# Altium schematic symbol library ON Semi Power Mgt Supervisory Cct.SchLib: 52 symbols
Pins are listed as number, name and electrical type; pins without a type are passive.

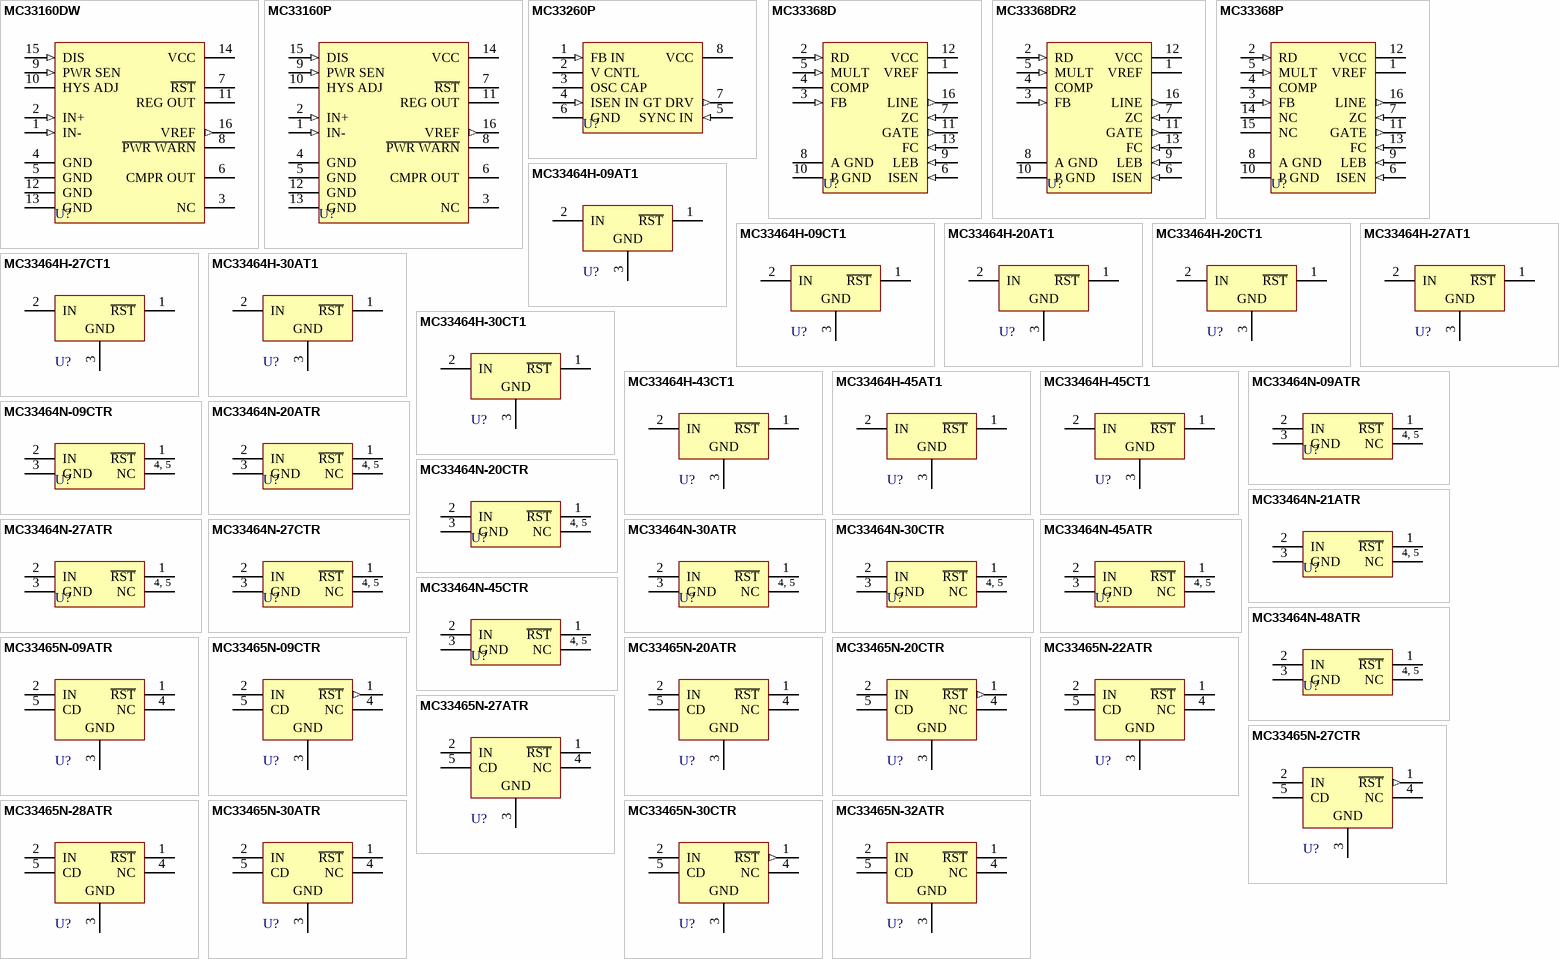
[diagram p0: symbols MC33160DW to MC33465N-32ATR]

## MC33160DW
designator U?
Microprocessor Voltage Regulator and Supervisory Circuit; Published: 15-Apr-2002; LatestRevisionDate: 13-Apr-2006; LatestRevisionNote: IPC-7351 Footprint Added.; DatasheetVersion: 1996; PackageVersion: Jul-1999; PackageReference: 751G-03; Publisher: Altium Limited; PackageDescription: 16-Pin Small Outline Integrated Circuit 1.27 mm Pitch; ComponentLink1Description: Manufacturer Link; ComponentLink1URL: http://www.onsemi.com/site/products/taxonomy/0,4438,503,00.html; ComponentLink2Description: Datasheet; ComponentLink2URL: http://www.onsemi.com/pub/Collateral/MC34160-D.PDF
footprint 751G-03_N (SOIC, 16-Leads, Body 10.3x7.5mm, Pitch 1.27mm, IPC Medium Density)
footprint 751G-03_L (SOIC, 16-Leads, Body 10.3x7.5mm, Pitch 1.27mm, IPC High Density)
footprint 751G-03_M (SOIC, 16-Leads, Body 10.3x7.5mm, Pitch 1.27mm, IPC Low Density)
pins: 1 IN- (in), 2 IN+ (in), 3 NC, 4 GND (power), 5 GND (power), 6 CMPR OUT (oc), 7 ~{RST} (oc), 8 ~{PWR WARN} (oc), 9 PWR SEN (in), 10 HYS ADJ, 11 REG OUT (power), 12 GND (power), 13 GND (power), 14 VCC (power), 15 DIS (in), 16 VREF (out)

## MC33160P
designator U?
Microprocessor Voltage Regulator and Supervisory Circuit; Published: 15-Apr-2002; DatasheetVersion: 1996; PackageVersion: 1996; PackageReference: 648C-03; Publisher: Altium Limited; PackageDescription: DIP; 16 Leads; Row Spacing 7.62 mm; Pitch 2.54 mm; ComponentLink1Description: Manufacturer Link; ComponentLink1URL: http://www.onsemi.com/site/products/taxonomy/0,4438,503,00.html; ComponentLink2Description: Datasheet; ComponentLink2URL: http://www.onsemi.com/pub/Collateral/MC34160-D.PDF
footprint 648C-03 (DIP; 16 Leads; Row Spacing 7.62 mm; Pitch 2.54 mm)
pins: 1 IN- (in), 2 IN+ (in), 3 NC, 4 GND (power), 5 GND (power), 6 CMPR OUT (oc), 7 ~{RST} (oc), 8 ~{PWR WARN} (oc), 9 PWR SEN (in), 10 HYS ADJ, 11 REG OUT (power), 12 GND (power), 13 GND (power), 14 VCC (power), 15 DIS (in), 16 VREF (out)

## MC33260P
designator U?
GreenLine Compact Power Factor Controller; Published: 15-Apr-2002; DatasheetVersion: Nov-1999; PackageVersion: 1998; PackageReference: 626-05; Publisher: Altium Limited; PackageDescription: DIP; 8 Leads; Row Spacing 7.62 mm; Pitch 2.54 mm; ComponentLink1Description: Manufacturer Link; ComponentLink1URL: http://www.onsemi.com/site/products/taxonomy/0,4438,503,00.html; ComponentLink2Description: Datasheet; ComponentLink2URL: http://www.onsemi.com/pub/Collateral/MC33260-D.PDF
footprint 626-05 (DIP; 8 Leads; Row Spacing 7.62 mm; Pitch 2.54 mm)
pins: 1 FB IN (in), 2 V CNTL, 3 OSC CAP, 4 ISEN IN (in), 5 SYNC IN (in), 6 GND (power), 7 GT DRV (out), 8 VCC (power)

## MC33368D
designator U?
High Voltage GreenLine Power Factor Controller; Note: Pin 14, 15 are trimmed; Published: 15-Apr-2002; LatestRevisionDate: 13-Apr-2006; LatestRevisionNote: IPC-7351 Footprint Added.; DatasheetVersion: Apr-2000; PackageVersion: Apr-2000; PackageReference: 751K-01; Publisher: Altium Limited; PackageDescription: 16-Pin (2 Absent) Small Outline Integrated Circuit 1.27 mm Pitch; ComponentLink1Description: Manufacturer Link; ComponentLink1URL: http://www.onsemi.com/site/products/taxonomy/0,4438,503,00.html; ComponentLink2Description: Datasheet; ComponentLink2URL: http://www.onsemi.com/pub/Collateral/MC33368-D.PDF
footprint 751K-01_N (SOIC, 16-Leads (2 Absent), Body 9.9x3.9 mm, Pitch 1.27mm, IPC Medium Density)
footprint 751K-01_L (SOIC, 16-Leads (2 Absent), Body 9.9x3.9 mm, Pitch 1.27mm, IPC High Density)
footprint 751K-01_M (SOIC, 16-Leads (2 Absent), Body 9.9x3.9 mm, Pitch 1.27mm, IPC Low Density)
pins: 1 VREF (power), 2 RD (in), 3 FB (in), 4 COMP, 5 MULT (in), 6 ISEN (in), 7 ZC (in), 8 A GND (power), 9 LEB (in), 10 P GND (power), 11 GATE (out), 12 VCC (power), 13 FC (in), 16 LINE (out)

## MC33368DR2
designator U?
High Voltage GreenLine Power Factor Controller; Note: Pin 14, 15 are trimmed; Published: 15-Apr-2002; LatestRevisionDate: 13-Apr-2006; LatestRevisionNote: IPC-7351 Footprint Added.; DatasheetVersion: Apr-2000; PackageVersion: Apr-2000; PackageReference: 751K-01; Publisher: Altium Limited; PackageDescription: 16-Pin (2 Absent) Small Outline Integrated Circuit 1.27 mm Pitch; ComponentLink1Description: Manufacturer Link; ComponentLink1URL: http://www.onsemi.com/site/products/taxonomy/0,4438,503,00.html; ComponentLink2Description: Datasheet; ComponentLink2URL: http://www.onsemi.com/pub/Collateral/MC33368-D.PDF
footprint 751K-01_N (SOIC, 16-Leads (2 Absent), Body 9.9x3.9 mm, Pitch 1.27mm, IPC Medium Density)
footprint 751K-01_L (SOIC, 16-Leads (2 Absent), Body 9.9x3.9 mm, Pitch 1.27mm, IPC High Density)
footprint 751K-01_M (SOIC, 16-Leads (2 Absent), Body 9.9x3.9 mm, Pitch 1.27mm, IPC Low Density)
pins: 1 VREF (power), 2 RD (in), 3 FB (in), 4 COMP, 5 MULT (in), 6 ISEN (in), 7 ZC (in), 8 A GND (power), 9 LEB (in), 10 P GND (power), 11 GATE (out), 12 VCC (power), 13 FC (in), 16 LINE (out)

## MC33368P
designator U?
High Voltage GreenLine Power Factor Controller; Published: 15-Apr-2002; DatasheetVersion: Apr-2000; PackageVersion: Apr-2000; PackageReference: 648-08; Publisher: Altium Limited; PackageDescription: DIP; 16 Leads; Row Spacing 7.62 mm; Pitch 2.54 mm; Code_JEDEC: MS-001-BB; ComponentLink1Description: Manufacturer Link; ComponentLink1URL: http://www.onsemi.com/site/products/taxonomy/0,4438,503,00.html; ComponentLink2Description: Datasheet; ComponentLink2URL: http://www.onsemi.com/pub/Collateral/MC33368-D.PDF
footprint 648-08 (DIP; 16 Leads; Row Spacing 7.62 mm; Pitch 2.54 mm)
pins: 1 VREF (power), 2 RD (in), 3 FB (in), 4 COMP, 5 MULT (in), 6 ISEN (in), 7 ZC (in), 8 A GND (power), 9 LEB (in), 10 P GND (power), 11 GATE (out), 12 VCC (power), 13 FC (in), 14 NC, 15 NC, 16 LINE (out)

## MC33464H-09AT1
designator U?
MicroPower UnderVoltage Sensing Circuit; Note: Pin 2 is connected to TAB; Published: 15-Apr-2002; DatasheetVersion: Jul-1999; PackageVersion: 1999; PackageReference: 1213-01; Publisher: Altium Limited; PackageDescription: SOT-89; Body 4.6 x 4.25 mm, inc. leads (LxW max); ComponentLink1Description: Manufacturer Link; ComponentLink1URL: http://www.onsemi.com/site/products/taxonomy/0,4438,503,00.html; ComponentLink2Description: Datasheet; ComponentLink2URL: http://www.onsemi.com/pub/Collateral/MC33464-D.PDF
footprint 1213-01 (SOT-89; Body 4.6 x 4.25 mm, inc. leads (LxW max))
pins: 1 ~{RST} (oc), 2 IN (power), 3 GND (power)

## MC33464H-09CT1
designator U?
MicroPower UnderVoltage Sensing Circuit; Note: Pin 2 is connected to TAB; Published: 15-Apr-2002; DatasheetVersion: Jul-1999; PackageVersion: 1999; PackageReference: 1213-01; Publisher: Altium Limited; PackageDescription: SOT-89; Body 4.6 x 4.25 mm, inc. leads (LxW max); ComponentLink1Description: Manufacturer Link; ComponentLink1URL: http://www.onsemi.com/site/products/taxonomy/0,4438,503,00.html; ComponentLink2Description: Datasheet; ComponentLink2URL: http://www.onsemi.com/pub/Collateral/MC33464-D.PDF
footprint 1213-01 (SOT-89; Body 4.6 x 4.25 mm, inc. leads (LxW max))
pins: 1 ~{RST} (oc), 2 IN (power), 3 GND (power)

## MC33464H-20AT1
designator U?
MicroPower UnderVoltage Sensing Circuit; Note: Pin 2 is connected to TAB; Published: 15-Apr-2002; DatasheetVersion: Jul-1999; PackageVersion: 1999; PackageReference: 1213-01; Publisher: Altium Limited; PackageDescription: SOT-89; Body 4.6 x 4.25 mm, inc. leads (LxW max); ComponentLink1Description: Manufacturer Link; ComponentLink1URL: http://www.onsemi.com/site/products/taxonomy/0,4438,503,00.html; ComponentLink2Description: Datasheet; ComponentLink2URL: http://www.onsemi.com/pub/Collateral/MC33464-D.PDF
footprint 1213-01 (SOT-89; Body 4.6 x 4.25 mm, inc. leads (LxW max))
pins: 1 ~{RST} (oc), 2 IN (power), 3 GND (power)

## MC33464H-20CT1
designator U?
MicroPower UnderVoltage Sensing Circuit; Note: Pin 2 is connected to TAB; Published: 15-Apr-2002; DatasheetVersion: Jul-1999; PackageVersion: 1999; PackageReference: 1213-01; Publisher: Altium Limited; PackageDescription: SOT-89; Body 4.6 x 4.25 mm, inc. leads (LxW max); ComponentLink1Description: Manufacturer Link; ComponentLink1URL: http://www.onsemi.com/site/products/taxonomy/0,4438,503,00.html; ComponentLink2Description: Datasheet; ComponentLink2URL: http://www.onsemi.com/pub/Collateral/MC33464-D.PDF
footprint 1213-01 (SOT-89; Body 4.6 x 4.25 mm, inc. leads (LxW max))
pins: 1 ~{RST} (oc), 2 IN (power), 3 GND (power)

## MC33464H-27AT1
designator U?
MicroPower UnderVoltage Sensing Circuit; Note: Pin 2 is connected to TAB; Published: 15-Apr-2002; DatasheetVersion: Jul-1999; PackageVersion: 1999; PackageReference: 1213-01; Publisher: Altium Limited; PackageDescription: SOT-89; Body 4.6 x 4.25 mm, inc. leads (LxW max); ComponentLink1Description: Manufacturer Link; ComponentLink1URL: http://www.onsemi.com/site/products/taxonomy/0,4438,503,00.html; ComponentLink2Description: Datasheet; ComponentLink2URL: http://www.onsemi.com/pub/Collateral/MC33464-D.PDF
footprint 1213-01 (SOT-89; Body 4.6 x 4.25 mm, inc. leads (LxW max))
pins: 1 ~{RST} (oc), 2 IN (power), 3 GND (power)

## MC33464H-27CT1
designator U?
MicroPower UnderVoltage Sensing Circuit; Note: Pin 2 is connected to TAB; Published: 15-Apr-2002; DatasheetVersion: Jul-1999; PackageVersion: 1999; PackageReference: 1213-01; Publisher: Altium Limited; PackageDescription: SOT-89; Body 4.6 x 4.25 mm, inc. leads (LxW max); ComponentLink1Description: Manufacturer Link; ComponentLink1URL: http://www.onsemi.com/site/products/taxonomy/0,4438,503,00.html; ComponentLink2Description: Datasheet; ComponentLink2URL: http://www.onsemi.com/pub/Collateral/MC33464-D.PDF
footprint 1213-01 (SOT-89; Body 4.6 x 4.25 mm, inc. leads (LxW max))
pins: 1 ~{RST} (oc), 2 IN (power), 3 GND (power)

## MC33464H-30AT1
designator U?
MicroPower UnderVoltage Sensing Circuit; Note: Pin 2 is connected to TAB; Published: 15-Apr-2002; DatasheetVersion: Jul-1999; PackageVersion: 1999; PackageReference: 1213-01; Publisher: Altium Limited; PackageDescription: SOT-89; Body 4.6 x 4.25 mm, inc. leads (LxW max); ComponentLink1Description: Manufacturer Link; ComponentLink1URL: http://www.onsemi.com/site/products/taxonomy/0,4438,503,00.html; ComponentLink2Description: Datasheet; ComponentLink2URL: http://www.onsemi.com/pub/Collateral/MC33464-D.PDF
footprint 1213-01 (SOT-89; Body 4.6 x 4.25 mm, inc. leads (LxW max))
pins: 1 ~{RST} (oc), 2 IN (power), 3 GND (power)

## MC33464H-30CT1
designator U?
MicroPower UnderVoltage Sensing Circuit; Note: Pin 2 is connected to TAB; Published: 15-Apr-2002; DatasheetVersion: Jul-1999; PackageVersion: 1999; PackageReference: 1213-01; Publisher: Altium Limited; PackageDescription: SOT-89; Body 4.6 x 4.25 mm, inc. leads (LxW max); ComponentLink1Description: Manufacturer Link; ComponentLink1URL: http://www.onsemi.com/site/products/taxonomy/0,4438,503,00.html; ComponentLink2Description: Datasheet; ComponentLink2URL: http://www.onsemi.com/pub/Collateral/MC33464-D.PDF
footprint 1213-01 (SOT-89; Body 4.6 x 4.25 mm, inc. leads (LxW max))
pins: 1 ~{RST} (oc), 2 IN (power), 3 GND (power)

## MC33464H-43CT1
designator U?
MicroPower UnderVoltage Sensing Circuit; Note: Pin 2 is connected to TAB; Published: 15-Apr-2002; DatasheetVersion: Jul-1999; PackageVersion: 1999; PackageReference: 1213-01; Publisher: Altium Limited; PackageDescription: SOT-89; Body 4.6 x 4.25 mm, inc. leads (LxW max); ComponentLink1Description: Manufacturer Link; ComponentLink1URL: http://www.onsemi.com/site/products/taxonomy/0,4438,503,00.html; ComponentLink2Description: Datasheet; ComponentLink2URL: http://www.onsemi.com/pub/Collateral/MC33464-D.PDF
footprint 1213-01 (SOT-89; Body 4.6 x 4.25 mm, inc. leads (LxW max))
pins: 1 ~{RST} (oc), 2 IN (power), 3 GND (power)

## MC33464H-45AT1
designator U?
MicroPower UnderVoltage Sensing Circuit; Note: Pin 2 is connected to TAB; Published: 15-Apr-2002; DatasheetVersion: Jul-1999; PackageVersion: 1999; PackageReference: 1213-01; Publisher: Altium Limited; PackageDescription: SOT-89; Body 4.6 x 4.25 mm, inc. leads (LxW max); ComponentLink1Description: Manufacturer Link; ComponentLink1URL: http://www.onsemi.com/site/products/taxonomy/0,4438,503,00.html; ComponentLink2Description: Datasheet; ComponentLink2URL: http://www.onsemi.com/pub/Collateral/MC33464-D.PDF
footprint 1213-01 (SOT-89; Body 4.6 x 4.25 mm, inc. leads (LxW max))
pins: 1 ~{RST} (oc), 2 IN (power), 3 GND (power)

## MC33464H-45CT1
designator U?
MicroPower UnderVoltage Sensing Circuit; Note: Pin 2 is connected to TAB; Published: 15-Apr-2002; DatasheetVersion: Jul-1999; PackageVersion: 1999; PackageReference: 1213-01; Publisher: Altium Limited; PackageDescription: SOT-89; Body 4.6 x 4.25 mm, inc. leads (LxW max); ComponentLink1Description: Manufacturer Link; ComponentLink1URL: http://www.onsemi.com/site/products/taxonomy/0,4438,503,00.html; ComponentLink2Description: Datasheet; ComponentLink2URL: http://www.onsemi.com/pub/Collateral/MC33464-D.PDF
footprint 1213-01 (SOT-89; Body 4.6 x 4.25 mm, inc. leads (LxW max))
pins: 1 ~{RST} (oc), 2 IN (power), 3 GND (power)

## MC33464N-09ATR
designator U?
MicroPower UnderVoltage Sensing Circuit; Published: 15-Apr-2002; DatasheetVersion: Jul-1999; PackageVersion: Jul-1999; PackageReference: 1212-01; Publisher: Altium Limited; PackageDescription: SOT-23/SC-74A; 5 Leads; Body 3 x 3.1 mm, inc. leads (LxW max); ComponentLink1Description: Manufacturer Link; ComponentLink1URL: http://www.onsemi.com/site/products/taxonomy/0,4438,503,00.html; ComponentLink2Description: Datasheet; ComponentLink2URL: http://www.onsemi.com/pub/Collateral/MC33464-D.PDF
footprint 1212-01 (SOT-23/SC-74A; 5 Leads; Body 3 x 3.1 mm, inc. leads (LxW max))
pins: 1 ~{RST} (oc), 2 IN (power), 3 GND (power), 4 NC, 5 NC
text: 4, 5

## MC33464N-09CTR
designator U?
MicroPower UnderVoltage Sensing Circuit; Published: 15-Apr-2002; DatasheetVersion: Jul-1999; PackageVersion: Jul-1999; PackageReference: 1212-01; Publisher: Altium Limited; PackageDescription: SOT-23/SC-74A; 5 Leads; Body 3 x 3.1 mm, inc. leads (LxW max); ComponentLink1Description: Manufacturer Link; ComponentLink1URL: http://www.onsemi.com/site/products/taxonomy/0,4438,503,00.html; ComponentLink2Description: Datasheet; ComponentLink2URL: http://www.onsemi.com/pub/Collateral/MC33464-D.PDF
footprint 1212-01 (SOT-23/SC-74A; 5 Leads; Body 3 x 3.1 mm, inc. leads (LxW max))
pins: 1 ~{RST} (oc), 2 IN (power), 3 GND (power), 4 NC, 5 NC
text: 4, 5

## MC33464N-20ATR
designator U?
MicroPower UnderVoltage Sensing Circuit; Published: 15-Apr-2002; DatasheetVersion: Jul-1999; PackageVersion: Jul-1999; PackageReference: 1212-01; Publisher: Altium Limited; PackageDescription: SOT-23/SC-74A; 5 Leads; Body 3 x 3.1 mm, inc. leads (LxW max); ComponentLink1Description: Manufacturer Link; ComponentLink1URL: http://www.onsemi.com/site/products/taxonomy/0,4438,503,00.html; ComponentLink2Description: Datasheet; ComponentLink2URL: http://www.onsemi.com/pub/Collateral/MC33464-D.PDF
footprint 1212-01 (SOT-23/SC-74A; 5 Leads; Body 3 x 3.1 mm, inc. leads (LxW max))
pins: 1 ~{RST} (oc), 2 IN (power), 3 GND (power), 4 NC, 5 NC
text: 4, 5

## MC33464N-20CTR
designator U?
MicroPower UnderVoltage Sensing Circuit; Published: 15-Apr-2002; DatasheetVersion: Jul-1999; PackageVersion: Jul-1999; PackageReference: 1212-01; Publisher: Altium Limited; PackageDescription: SOT-23/SC-74A; 5 Leads; Body 3 x 3.1 mm, inc. leads (LxW max); ComponentLink1Description: Manufacturer Link; ComponentLink1URL: http://www.onsemi.com/site/products/taxonomy/0,4438,503,00.html; ComponentLink2Description: Datasheet; ComponentLink2URL: http://www.onsemi.com/pub/Collateral/MC33464-D.PDF
footprint 1212-01 (SOT-23/SC-74A; 5 Leads; Body 3 x 3.1 mm, inc. leads (LxW max))
pins: 1 ~{RST} (oc), 2 IN (power), 3 GND (power), 4 NC, 5 NC
text: 4, 5

## MC33464N-21ATR
designator U?
MicroPower UnderVoltage Sensing Circuit; Published: 15-Apr-2002; DatasheetVersion: Jul-1999; PackageVersion: Jul-1999; PackageReference: 1212-01; Publisher: Altium Limited; PackageDescription: SOT-23/SC-74A; 5 Leads; Body 3 x 3.1 mm, inc. leads (LxW max); ComponentLink1Description: Manufacturer Link; ComponentLink1URL: http://www.onsemi.com/site/products/taxonomy/0,4438,503,00.html; ComponentLink2Description: Datasheet; ComponentLink2URL: http://www.onsemi.com/pub/Collateral/MC33464-D.PDF
footprint 1212-01 (SOT-23/SC-74A; 5 Leads; Body 3 x 3.1 mm, inc. leads (LxW max))
pins: 1 ~{RST} (oc), 2 IN (power), 3 GND (power), 4 NC, 5 NC
text: 4, 5

## MC33464N-27ATR
designator U?
MicroPower UnderVoltage Sensing Circuit; Published: 15-Apr-2002; DatasheetVersion: Jul-1999; PackageVersion: Jul-1999; PackageReference: 1212-01; Publisher: Altium Limited; PackageDescription: SOT-23/SC-74A; 5 Leads; Body 3 x 3.1 mm, inc. leads (LxW max); ComponentLink1Description: Manufacturer Link; ComponentLink1URL: http://www.onsemi.com/site/products/taxonomy/0,4438,503,00.html; ComponentLink2Description: Datasheet; ComponentLink2URL: http://www.onsemi.com/pub/Collateral/MC33464-D.PDF
footprint 1212-01 (SOT-23/SC-74A; 5 Leads; Body 3 x 3.1 mm, inc. leads (LxW max))
pins: 1 ~{RST} (oc), 2 IN (power), 3 GND (power), 4 NC, 5 NC
text: 4, 5

## MC33464N-27CTR
designator U?
MicroPower UnderVoltage Sensing Circuit; Published: 15-Apr-2002; DatasheetVersion: Jul-1999; PackageVersion: Jul-1999; PackageReference: 1212-01; Publisher: Altium Limited; PackageDescription: SOT-23/SC-74A; 5 Leads; Body 3 x 3.1 mm, inc. leads (LxW max); ComponentLink1Description: Manufacturer Link; ComponentLink1URL: http://www.onsemi.com/site/products/taxonomy/0,4438,503,00.html; ComponentLink2Description: Datasheet; ComponentLink2URL: http://www.onsemi.com/pub/Collateral/MC33464-D.PDF
footprint 1212-01 (SOT-23/SC-74A; 5 Leads; Body 3 x 3.1 mm, inc. leads (LxW max))
pins: 1 ~{RST} (oc), 2 IN (power), 3 GND (power), 4 NC, 5 NC
text: 4, 5

## MC33464N-30ATR
designator U?
MicroPower UnderVoltage Sensing Circuit; Published: 15-Apr-2002; DatasheetVersion: Jul-1999; PackageVersion: Jul-1999; PackageReference: 1212-01; Publisher: Altium Limited; PackageDescription: SOT-23/SC-74A; 5 Leads; Body 3 x 3.1 mm, inc. leads (LxW max); ComponentLink1Description: Manufacturer Link; ComponentLink1URL: http://www.onsemi.com/site/products/taxonomy/0,4438,503,00.html; ComponentLink2Description: Datasheet; ComponentLink2URL: http://www.onsemi.com/pub/Collateral/MC33464-D.PDF
footprint 1212-01 (SOT-23/SC-74A; 5 Leads; Body 3 x 3.1 mm, inc. leads (LxW max))
pins: 1 ~{RST} (oc), 2 IN (power), 3 GND (power), 4 NC, 5 NC
text: 4, 5

## MC33464N-30CTR
designator U?
MicroPower UnderVoltage Sensing Circuit; Published: 15-Apr-2002; DatasheetVersion: Jul-1999; PackageVersion: Jul-1999; PackageReference: 1212-01; Publisher: Altium Limited; PackageDescription: SOT-23/SC-74A; 5 Leads; Body 3 x 3.1 mm, inc. leads (LxW max); ComponentLink1Description: Manufacturer Link; ComponentLink1URL: http://www.onsemi.com/site/products/taxonomy/0,4438,503,00.html; ComponentLink2Description: Datasheet; ComponentLink2URL: http://www.onsemi.com/pub/Collateral/MC33464-D.PDF
footprint 1212-01 (SOT-23/SC-74A; 5 Leads; Body 3 x 3.1 mm, inc. leads (LxW max))
pins: 1 ~{RST} (oc), 2 IN (power), 3 GND (power), 4 NC, 5 NC
text: 4, 5

## MC33464N-45ATR
designator U?
MicroPower UnderVoltage Sensing Circuit; Published: 15-Apr-2002; DatasheetVersion: Jul-1999; PackageVersion: Jul-1999; PackageReference: 1212-01; Publisher: Altium Limited; PackageDescription: SOT-23/SC-74A; 5 Leads; Body 3 x 3.1 mm, inc. leads (LxW max); ComponentLink1Description: Manufacturer Link; ComponentLink1URL: http://www.onsemi.com/site/products/taxonomy/0,4438,503,00.html; ComponentLink2Description: Datasheet; ComponentLink2URL: http://www.onsemi.com/pub/Collateral/MC33464-D.PDF
footprint 1212-01 (SOT-23/SC-74A; 5 Leads; Body 3 x 3.1 mm, inc. leads (LxW max))
pins: 1 ~{RST} (oc), 2 IN (power), 3 GND (power), 4 NC, 5 NC
text: 4, 5

## MC33464N-45CTR
designator U?
MicroPower UnderVoltage Sensing Circuit; Published: 15-Apr-2002; DatasheetVersion: Jul-1999; PackageVersion: Jul-1999; PackageReference: 1212-01; Publisher: Altium Limited; PackageDescription: SOT-23/SC-74A; 5 Leads; Body 3 x 3.1 mm, inc. leads (LxW max); ComponentLink1Description: Manufacturer Link; ComponentLink1URL: http://www.onsemi.com/site/products/taxonomy/0,4438,503,00.html; ComponentLink2Description: Datasheet; ComponentLink2URL: http://www.onsemi.com/pub/Collateral/MC33464-D.PDF
footprint 1212-01 (SOT-23/SC-74A; 5 Leads; Body 3 x 3.1 mm, inc. leads (LxW max))
pins: 1 ~{RST} (oc), 2 IN (power), 3 GND (power), 4 NC, 5 NC
text: 4, 5

## MC33464N-48ATR
designator U?
MicroPower UnderVoltage Sensing Circuit; Published: 15-Apr-2002; DatasheetVersion: Jul-1999; PackageVersion: Jul-1999; PackageReference: 1212-01; Publisher: Altium Limited; PackageDescription: SOT-23/SC-74A; 5 Leads; Body 3 x 3.1 mm, inc. leads (LxW max); ComponentLink1Description: Manufacturer Link; ComponentLink1URL: http://www.onsemi.com/site/products/taxonomy/0,4438,503,00.html; ComponentLink2Description: Datasheet; ComponentLink2URL: http://www.onsemi.com/pub/Collateral/MC33464-D.PDF
footprint 1212-01 (SOT-23/SC-74A; 5 Leads; Body 3 x 3.1 mm, inc. leads (LxW max))
pins: 1 ~{RST} (oc), 2 IN (power), 3 GND (power), 4 NC, 5 NC
text: 4, 5

## MC33465N-09ATR
designator U?
Micropower Undervoltage Sensing Circuit with Programmable Output Delay; Published: 15-Apr-2002; DatasheetVersion: Oct-1999; PackageVersion: Jul-1999; PackageReference: 1212-01; Publisher: Altium Limited; PackageDescription: SOT-23/SC-74A; 5 Leads; Body 3 x 3.1 mm, inc. leads (LxW max); ComponentLink1Description: Manufacturer Link; ComponentLink1URL: http://www.onsemi.com/site/products/taxonomy/0,4438,503,00.html; ComponentLink2Description: Datasheet; ComponentLink2URL: http://www.onsemi.com/pub/Collateral/MC33465-D.PDF
footprint 1212-01 (SOT-23/SC-74A; 5 Leads; Body 3 x 3.1 mm, inc. leads (LxW max))
pins: 1 ~{RST} (oc), 2 IN (power), 3 GND (power), 4 NC, 5 CD

## MC33465N-09CTR
designator U?
Micropower Undervoltage Sensing Circuit with Programmable Output Delay; Published: 15-Apr-2002; DatasheetVersion: Oct-1999; PackageVersion: Jul-1999; PackageReference: 1212-01; Publisher: Altium Limited; PackageDescription: SOT-23/SC-74A; 5 Leads; Body 3 x 3.1 mm, inc. leads (LxW max); ComponentLink1Description: Manufacturer Link; ComponentLink1URL: http://www.onsemi.com/site/products/taxonomy/0,4438,503,00.html; ComponentLink2Description: Datasheet; ComponentLink2URL: http://www.onsemi.com/pub/Collateral/MC33465-D.PDF
footprint 1212-01 (SOT-23/SC-74A; 5 Leads; Body 3 x 3.1 mm, inc. leads (LxW max))
pins: 1 ~{RST} (out), 2 IN (power), 3 GND (power), 4 NC, 5 CD

## MC33465N-20ATR
designator U?
Micropower Undervoltage Sensing Circuit with Programmable Output Delay; Published: 15-Apr-2002; DatasheetVersion: Oct-1999; PackageVersion: Jul-1999; PackageReference: 1212-01; Publisher: Altium Limited; PackageDescription: SOT-23/SC-74A; 5 Leads; Body 3 x 3.1 mm, inc. leads (LxW max); ComponentLink1Description: Manufacturer Link; ComponentLink1URL: http://www.onsemi.com/site/products/taxonomy/0,4438,503,00.html; ComponentLink2Description: Datasheet; ComponentLink2URL: http://www.onsemi.com/pub/Collateral/MC33465-D.PDF
footprint 1212-01 (SOT-23/SC-74A; 5 Leads; Body 3 x 3.1 mm, inc. leads (LxW max))
pins: 1 ~{RST} (oc), 2 IN (power), 3 GND (power), 4 NC, 5 CD

## MC33465N-20CTR
designator U?
Micropower Undervoltage Sensing Circuit with Programmable Output Delay; Published: 15-Apr-2002; DatasheetVersion: Oct-1999; PackageVersion: Jul-1999; PackageReference: 1212-01; Publisher: Altium Limited; PackageDescription: SOT-23/SC-74A; 5 Leads; Body 3 x 3.1 mm, inc. leads (LxW max); ComponentLink1Description: Manufacturer Link; ComponentLink1URL: http://www.onsemi.com/site/products/taxonomy/0,4438,503,00.html; ComponentLink2Description: Datasheet; ComponentLink2URL: http://www.onsemi.com/pub/Collateral/MC33465-D.PDF
footprint 1212-01 (SOT-23/SC-74A; 5 Leads; Body 3 x 3.1 mm, inc. leads (LxW max))
pins: 1 ~{RST} (out), 2 IN (power), 3 GND (power), 4 NC, 5 CD

## MC33465N-22ATR
designator U?
Micropower Undervoltage Sensing Circuit with Programmable Output Delay; Published: 15-Apr-2002; DatasheetVersion: Oct-1999; PackageVersion: Jul-1999; PackageReference: 1212-01; Publisher: Altium Limited; PackageDescription: SOT-23/SC-74A; 5 Leads; Body 3 x 3.1 mm, inc. leads (LxW max); ComponentLink1Description: Manufacturer Link; ComponentLink1URL: http://www.onsemi.com/site/products/taxonomy/0,4438,503,00.html; ComponentLink2Description: Datasheet; ComponentLink2URL: http://www.onsemi.com/pub/Collateral/MC33465-D.PDF
footprint 1212-01 (SOT-23/SC-74A; 5 Leads; Body 3 x 3.1 mm, inc. leads (LxW max))
pins: 1 ~{RST} (oc), 2 IN (power), 3 GND (power), 4 NC, 5 CD

## MC33465N-27ATR
designator U?
Micropower Undervoltage Sensing Circuit with Programmable Output Delay; Published: 15-Apr-2002; DatasheetVersion: Oct-1999; PackageVersion: Jul-1999; PackageReference: 1212-01; Publisher: Altium Limited; PackageDescription: SOT-23/SC-74A; 5 Leads; Body 3 x 3.1 mm, inc. leads (LxW max); ComponentLink1Description: Manufacturer Link; ComponentLink1URL: http://www.onsemi.com/site/products/taxonomy/0,4438,503,00.html; ComponentLink2Description: Datasheet; ComponentLink2URL: http://www.onsemi.com/pub/Collateral/MC33465-D.PDF
footprint 1212-01 (SOT-23/SC-74A; 5 Leads; Body 3 x 3.1 mm, inc. leads (LxW max))
pins: 1 ~{RST} (oc), 2 IN (power), 3 GND (power), 4 NC, 5 CD

## MC33465N-27CTR
designator U?
Micropower Undervoltage Sensing Circuit with Programmable Output Delay; Published: 15-Apr-2002; DatasheetVersion: Oct-1999; PackageVersion: Jul-1999; PackageReference: 1212-01; Publisher: Altium Limited; PackageDescription: SOT-23/SC-74A; 5 Leads; Body 3 x 3.1 mm, inc. leads (LxW max); ComponentLink1Description: Manufacturer Link; ComponentLink1URL: http://www.onsemi.com/site/products/taxonomy/0,4438,503,00.html; ComponentLink2Description: Datasheet; ComponentLink2URL: http://www.onsemi.com/pub/Collateral/MC33465-D.PDF
footprint 1212-01 (SOT-23/SC-74A; 5 Leads; Body 3 x 3.1 mm, inc. leads (LxW max))
pins: 1 ~{RST} (out), 2 IN (power), 3 GND (power), 4 NC, 5 CD

## MC33465N-28ATR
designator U?
Micropower Undervoltage Sensing Circuit with Programmable Output Delay; Published: 15-Apr-2002; DatasheetVersion: Oct-1999; PackageVersion: Jul-1999; PackageReference: 1212-01; Publisher: Altium Limited; PackageDescription: SOT-23/SC-74A; 5 Leads; Body 3 x 3.1 mm, inc. leads (LxW max); ComponentLink1Description: Manufacturer Link; ComponentLink1URL: http://www.onsemi.com/site/products/taxonomy/0,4438,503,00.html; ComponentLink2Description: Datasheet; ComponentLink2URL: http://www.onsemi.com/pub/Collateral/MC33465-D.PDF
footprint 1212-01 (SOT-23/SC-74A; 5 Leads; Body 3 x 3.1 mm, inc. leads (LxW max))
pins: 1 ~{RST} (oc), 2 IN (power), 3 GND (power), 4 NC, 5 CD

## MC33465N-30ATR
designator U?
Micropower Undervoltage Sensing Circuit with Programmable Output Delay; Published: 15-Apr-2002; DatasheetVersion: Oct-1999; PackageVersion: Jul-1999; PackageReference: 1212-01; Publisher: Altium Limited; PackageDescription: SOT-23/SC-74A; 5 Leads; Body 3 x 3.1 mm, inc. leads (LxW max); ComponentLink1Description: Manufacturer Link; ComponentLink1URL: http://www.onsemi.com/site/products/taxonomy/0,4438,503,00.html; ComponentLink2Description: Datasheet; ComponentLink2URL: http://www.onsemi.com/pub/Collateral/MC33465-D.PDF
footprint 1212-01 (SOT-23/SC-74A; 5 Leads; Body 3 x 3.1 mm, inc. leads (LxW max))
pins: 1 ~{RST} (oc), 2 IN (power), 3 GND (power), 4 NC, 5 CD

## MC33465N-30CTR
designator U?
Micropower Undervoltage Sensing Circuit with Programmable Output Delay; Published: 15-Apr-2002; DatasheetVersion: Oct-1999; PackageVersion: Jul-1999; PackageReference: 1212-01; Publisher: Altium Limited; PackageDescription: SOT-23/SC-74A; 5 Leads; Body 3 x 3.1 mm, inc. leads (LxW max); ComponentLink1Description: Manufacturer Link; ComponentLink1URL: http://www.onsemi.com/site/products/taxonomy/0,4438,503,00.html; ComponentLink2Description: Datasheet; ComponentLink2URL: http://www.onsemi.com/pub/Collateral/MC33465-D.PDF
footprint 1212-01 (SOT-23/SC-74A; 5 Leads; Body 3 x 3.1 mm, inc. leads (LxW max))
pins: 1 ~{RST} (out), 2 IN (power), 3 GND (power), 4 NC, 5 CD

## MC33465N-32ATR
designator U?
Micropower Undervoltage Sensing Circuit with Programmable Output Delay; Published: 15-Apr-2002; DatasheetVersion: Oct-1999; PackageVersion: Jul-1999; PackageReference: 1212-01; Publisher: Altium Limited; PackageDescription: SOT-23/SC-74A; 5 Leads; Body 3 x 3.1 mm, inc. leads (LxW max); ComponentLink1Description: Manufacturer Link; ComponentLink1URL: http://www.onsemi.com/site/products/taxonomy/0,4438,503,00.html; ComponentLink2Description: Datasheet; ComponentLink2URL: http://www.onsemi.com/pub/Collateral/MC33465-D.PDF
footprint 1212-01 (SOT-23/SC-74A; 5 Leads; Body 3 x 3.1 mm, inc. leads (LxW max))
pins: 1 ~{RST} (oc), 2 IN (power), 3 GND (power), 4 NC, 5 CD

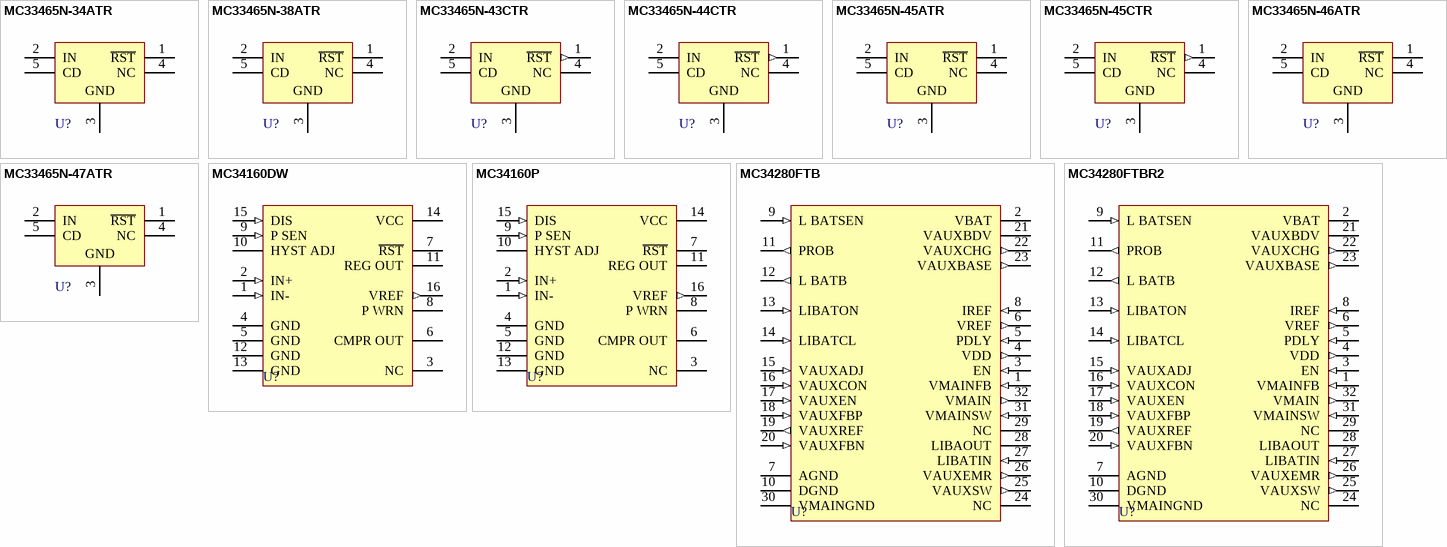
[diagram p1: symbols MC33465N-34ATR to MC34280FTBR2]

## MC33465N-34ATR
designator U?
Micropower Undervoltage Sensing Circuit with Programmable Output Delay; Published: 15-Apr-2002; DatasheetVersion: Oct-1999; PackageVersion: Jul-1999; PackageReference: 1212-01; Publisher: Altium Limited; PackageDescription: SOT-23/SC-74A; 5 Leads; Body 3 x 3.1 mm, inc. leads (LxW max); ComponentLink1Description: Manufacturer Link; ComponentLink1URL: http://www.onsemi.com/site/products/taxonomy/0,4438,503,00.html; ComponentLink2Description: Datasheet; ComponentLink2URL: http://www.onsemi.com/pub/Collateral/MC33465-D.PDF
footprint 1212-01 (SOT-23/SC-74A; 5 Leads; Body 3 x 3.1 mm, inc. leads (LxW max))
pins: 1 ~{RST} (oc), 2 IN (power), 3 GND (power), 4 NC, 5 CD

## MC33465N-38ATR
designator U?
Micropower Undervoltage Sensing Circuit with Programmable Output Delay; Published: 15-Apr-2002; DatasheetVersion: Oct-1999; PackageVersion: Jul-1999; PackageReference: 1212-01; Publisher: Altium Limited; PackageDescription: SOT-23/SC-74A; 5 Leads; Body 3 x 3.1 mm, inc. leads (LxW max); ComponentLink1Description: Manufacturer Link; ComponentLink1URL: http://www.onsemi.com/site/products/taxonomy/0,4438,503,00.html; ComponentLink2Description: Datasheet; ComponentLink2URL: http://www.onsemi.com/pub/Collateral/MC33465-D.PDF
footprint 1212-01 (SOT-23/SC-74A; 5 Leads; Body 3 x 3.1 mm, inc. leads (LxW max))
pins: 1 ~{RST} (oc), 2 IN (power), 3 GND (power), 4 NC, 5 CD

## MC33465N-43CTR
designator U?
Micropower Undervoltage Sensing Circuit with Programmable Output Delay; Published: 15-Apr-2002; DatasheetVersion: Oct-1999; PackageVersion: Jul-1999; PackageReference: 1212-01; Publisher: Altium Limited; PackageDescription: SOT-23/SC-74A; 5 Leads; Body 3 x 3.1 mm, inc. leads (LxW max); ComponentLink1Description: Manufacturer Link; ComponentLink1URL: http://www.onsemi.com/site/products/taxonomy/0,4438,503,00.html; ComponentLink2Description: Datasheet; ComponentLink2URL: http://www.onsemi.com/pub/Collateral/MC33465-D.PDF
footprint 1212-01 (SOT-23/SC-74A; 5 Leads; Body 3 x 3.1 mm, inc. leads (LxW max))
pins: 1 ~{RST} (out), 2 IN (power), 3 GND (power), 4 NC, 5 CD

## MC33465N-44CTR
designator U?
Micropower Undervoltage Sensing Circuit with Programmable Output Delay; Published: 15-Apr-2002; DatasheetVersion: Oct-1999; PackageVersion: Jul-1999; PackageReference: 1212-01; Publisher: Altium Limited; PackageDescription: SOT-23/SC-74A; 5 Leads; Body 3 x 3.1 mm, inc. leads (LxW max); ComponentLink1Description: Manufacturer Link; ComponentLink1URL: http://www.onsemi.com/site/products/taxonomy/0,4438,503,00.html; ComponentLink2Description: Datasheet; ComponentLink2URL: http://www.onsemi.com/pub/Collateral/MC33465-D.PDF
footprint 1212-01 (SOT-23/SC-74A; 5 Leads; Body 3 x 3.1 mm, inc. leads (LxW max))
pins: 1 ~{RST} (out), 2 IN (power), 3 GND (power), 4 NC, 5 CD

## MC33465N-45ATR
designator U?
Micropower Undervoltage Sensing Circuit with Programmable Output Delay; Published: 15-Apr-2002; DatasheetVersion: Oct-1999; PackageVersion: Jul-1999; PackageReference: 1212-01; Publisher: Altium Limited; PackageDescription: SOT-23/SC-74A; 5 Leads; Body 3 x 3.1 mm, inc. leads (LxW max); ComponentLink1Description: Manufacturer Link; ComponentLink1URL: http://www.onsemi.com/site/products/taxonomy/0,4438,503,00.html; ComponentLink2Description: Datasheet; ComponentLink2URL: http://www.onsemi.com/pub/Collateral/MC33465-D.PDF
footprint 1212-01 (SOT-23/SC-74A; 5 Leads; Body 3 x 3.1 mm, inc. leads (LxW max))
pins: 1 ~{RST} (oc), 2 IN (power), 3 GND (power), 4 NC, 5 CD

## MC33465N-45CTR
designator U?
Micropower Undervoltage Sensing Circuit with Programmable Output Delay; Published: 15-Apr-2002; DatasheetVersion: Oct-1999; PackageVersion: Jul-1999; PackageReference: 1212-01; Publisher: Altium Limited; PackageDescription: SOT-23/SC-74A; 5 Leads; Body 3 x 3.1 mm, inc. leads (LxW max); ComponentLink1Description: Manufacturer Link; ComponentLink1URL: http://www.onsemi.com/site/products/taxonomy/0,4438,503,00.html; ComponentLink2Description: Datasheet; ComponentLink2URL: http://www.onsemi.com/pub/Collateral/MC33465-D.PDF
footprint 1212-01 (SOT-23/SC-74A; 5 Leads; Body 3 x 3.1 mm, inc. leads (LxW max))
pins: 1 ~{RST} (out), 2 IN (power), 3 GND (power), 4 NC, 5 CD

## MC33465N-46ATR
designator U?
Micropower Undervoltage Sensing Circuit with Programmable Output Delay; Published: 15-Apr-2002; DatasheetVersion: Oct-1999; PackageVersion: Jul-1999; PackageReference: 1212-01; Publisher: Altium Limited; PackageDescription: SOT-23/SC-74A; 5 Leads; Body 3 x 3.1 mm, inc. leads (LxW max); ComponentLink1Description: Manufacturer Link; ComponentLink1URL: http://www.onsemi.com/site/products/taxonomy/0,4438,503,00.html; ComponentLink2Description: Datasheet; ComponentLink2URL: http://www.onsemi.com/pub/Collateral/MC33465-D.PDF
footprint 1212-01 (SOT-23/SC-74A; 5 Leads; Body 3 x 3.1 mm, inc. leads (LxW max))
pins: 1 ~{RST} (oc), 2 IN (power), 3 GND (power), 4 NC, 5 CD

## MC33465N-47ATR
designator U?
Micropower Undervoltage Sensing Circuit with Programmable Output Delay; Published: 15-Apr-2002; DatasheetVersion: Oct-1999; PackageVersion: Jul-1999; PackageReference: 1212-01; Publisher: Altium Limited; PackageDescription: SOT-23/SC-74A; 5 Leads; Body 3 x 3.1 mm, inc. leads (LxW max); ComponentLink1Description: Manufacturer Link; ComponentLink1URL: http://www.onsemi.com/site/products/taxonomy/0,4438,503,00.html; ComponentLink2Description: Datasheet; ComponentLink2URL: http://www.onsemi.com/pub/Collateral/MC33465-D.PDF
footprint 1212-01 (SOT-23/SC-74A; 5 Leads; Body 3 x 3.1 mm, inc. leads (LxW max))
pins: 1 ~{RST} (oc), 2 IN (power), 3 GND (power), 4 NC, 5 CD

## MC34160DW
designator U?
Microprocessor Voltage Regulator and Supervisory Circuit; Published: 15-Apr-2002; LatestRevisionDate: 13-Apr-2006; LatestRevisionNote: IPC-7351 Footprint Added.; DatasheetVersion: 1996; PackageVersion: Jul-1999; PackageReference: 751G-03; Publisher: Altium Limited; PackageDescription: 16-Pin Small Outline Integrated Circuit 1.27 mm Pitch; ComponentLink1Description: Manufacturer Link; ComponentLink1URL: http://www.onsemi.com/site/products/taxonomy/0,4438,503,00.html; ComponentLink2Description: Datasheet; ComponentLink2URL: http://www.onsemi.com/pub/Collateral/MC34160-D.PDF
footprint 751G-03_N (SOIC, 16-Leads, Body 10.3x7.5mm, Pitch 1.27mm, IPC Medium Density)
footprint 751G-03_L (SOIC, 16-Leads, Body 10.3x7.5mm, Pitch 1.27mm, IPC High Density)
footprint 751G-03_M (SOIC, 16-Leads, Body 10.3x7.5mm, Pitch 1.27mm, IPC Low Density)
pins: 1 IN- (in), 2 IN+ (in), 3 NC, 4 GND (power), 5 GND (power), 6 CMPR OUT (oc), 7 ~{RST} (oc), 8 P WRN (oc), 9 P SEN (in), 10 HYST ADJ, 11 REG OUT (power), 12 GND (power), 13 GND (power), 14 VCC (power), 15 DIS (in), 16 VREF (out)

## MC34160P
designator U?
Microprocessor Voltage Regulator and Supervisory Circuit; Published: 15-Apr-2002; DatasheetVersion: 1996; PackageVersion: 1996; PackageReference: 648C-03; Publisher: Altium Limited; PackageDescription: DIP; 16 Leads; Row Spacing 7.62 mm; Pitch 2.54 mm; ComponentLink1Description: Manufacturer Link; ComponentLink1URL: http://www.onsemi.com/site/products/taxonomy/0,4438,503,00.html; ComponentLink2Description: Datasheet; ComponentLink2URL: http://www.onsemi.com/pub/Collateral/MC34160-D.PDF
footprint 648C-03 (DIP; 16 Leads; Row Spacing 7.62 mm; Pitch 2.54 mm)
pins: 1 IN- (in), 2 IN+ (in), 3 NC, 4 GND (power), 5 GND (power), 6 CMPR OUT (oc), 7 ~{RST} (oc), 8 P WRN (oc), 9 P SEN (in), 10 HYST ADJ, 11 REG OUT (power), 12 GND (power), 13 GND (power), 14 VCC (power), 15 DIS (in), 16 VREF (out)

## MC34280FTB
designator U?
Power Supply and Management IC For Handheld Products; Published: 15-Apr-2002; LatestRevisionDate: 13-Apr-2006; LatestRevisionNote: IPC-7351 Footprint Added.; DatasheetVersion: Feb-2000; PackageVersion: May-2000; PackageReference: 873A-02; Publisher: Altium Limited; PackageDescription: 32-Pin Thin Quad Flat Pack 0.8 mm Pitch; ComponentLink1Description: Manufacturer Link; ComponentLink1URL: http://www.onsemi.com/site/products/taxonomy/0,4438,503,00.html; ComponentLink2Description: Datasheet; ComponentLink2URL: http://www.onsemi.com/pub/Collateral/MC34280-D.PDF
footprint 873A-02_N (Thin QFP, 32-Leads, Body 7x7mm, Pitch 0.8mm, IPC Medium Density)
footprint 873A-02_L (Thin QFP, 32-Leads, Body 7x7mm, Pitch 0.8mm, IPC High Density)
footprint 873A-02_M (Thin QFP, 32-Leads, Body 7x7mm, Pitch 0.8mm, IPC Low Density)
pins: 1 VMAINFB (in), 2 VBAT (power), 3 EN (in), 4 VDD (out), 5 PDLY (in), 6 VREF (out), 7 AGND (power), 8 IREF (in), 9 L BATSEN (in), 10 DGND (power), 11 PROB (out), 12 L BATB (out), 13 LIBATON (in), 14 LIBATCL (in), 15 VAUXADJ (in), 16 VAUXCON (in), 17 VAUXEN (in), 18 VAUXFBP (in), 19 VAUXREF (out), 20 VAUXFBN (in), 21 VAUXBDV (power), 22 VAUXCHG (out), 23 VAUXBASE (out), 24 NC, 25 VAUXSW (out), 26 VAUXEMR (out), 27 LIBATIN (in), 28 LIBAOUT (oc), 29 NC, 30 VMAINGND (power), 31 VMAINSW (in), 32 VMAIN (out)

## MC34280FTBR2
designator U?
Power Supply and Management IC For Handheld Products; Published: 15-Apr-2002; LatestRevisionDate: 13-Apr-2006; LatestRevisionNote: IPC-7351 Footprint Added.; DatasheetVersion: Feb-2000; PackageVersion: May-2000; PackageReference: 873A-02; Publisher: Altium Limited; PackageDescription: 32-Pin Thin Quad Flat Pack 0.8 mm Pitch; ComponentLink1Description: Manufacturer Link; ComponentLink1URL: http://www.onsemi.com/site/products/taxonomy/0,4438,503,00.html; ComponentLink2Description: Datasheet; ComponentLink2URL: http://www.onsemi.com/pub/Collateral/MC34280-D.PDF
footprint 873A-02_N (Thin QFP, 32-Leads, Body 7x7mm, Pitch 0.8mm, IPC Medium Density)
footprint 873A-02_L (Thin QFP, 32-Leads, Body 7x7mm, Pitch 0.8mm, IPC High Density)
footprint 873A-02_M (Thin QFP, 32-Leads, Body 7x7mm, Pitch 0.8mm, IPC Low Density)
pins: 1 VMAINFB (in), 2 VBAT (power), 3 EN (in), 4 VDD (out), 5 PDLY (in), 6 VREF (out), 7 AGND (power), 8 IREF (in), 9 L BATSEN (in), 10 DGND (power), 11 PROB (out), 12 L BATB (out), 13 LIBATON (in), 14 LIBATCL (in), 15 VAUXADJ (in), 16 VAUXCON (in), 17 VAUXEN (in), 18 VAUXFBP (in), 19 VAUXREF (out), 20 VAUXFBN (in), 21 VAUXBDV (power), 22 VAUXCHG (out), 23 VAUXBASE (out), 24 NC, 25 VAUXSW (out), 26 VAUXEMR (out), 27 LIBATIN (in), 28 LIBAOUT (oc), 29 NC, 30 VMAINGND (power), 31 VMAINSW (in), 32 VMAIN (out)